# Altium footprint library CH340E.PcbLib: 1 footprints
Each footprint in its own frame and in the unit in brackets; x right, y up, seen from the top. Pads: shape width x height; smd on the part's side, far side on the other; paste and mask are expansions set on the pad; w line width, h text height; cw(c..) or ccw(c..) is an arc to the next point about the centre after c.
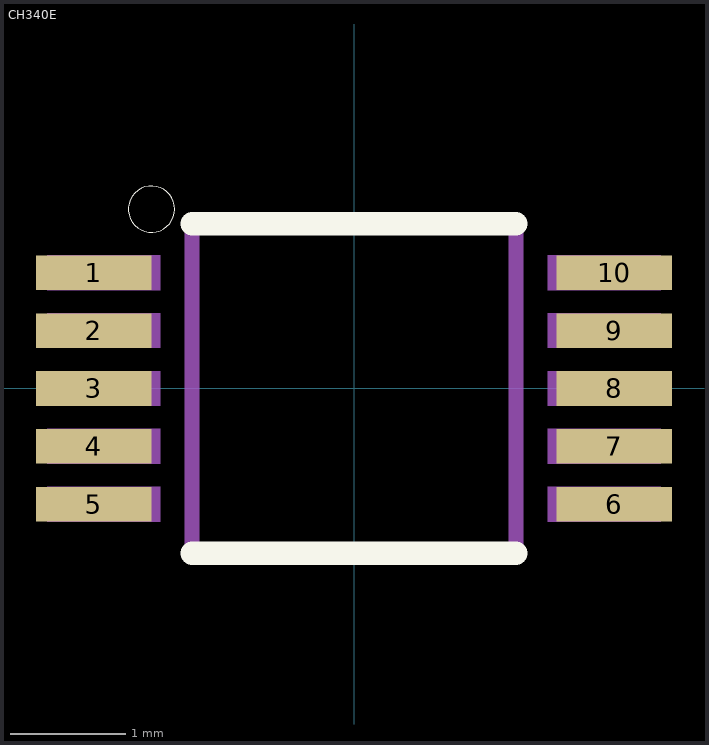
[diagram p0: the footprint, top view; thin cyan lines are the x and y axes]

## CH340E [mm]
pads (10):
  rect 1x0.3 smd paste-1 mask+0.05: 1(-2.25,1) 2(-2.25,0.5) 3(-2.25,0) 4(-2.25,-0.5) 5(-2.25,-1) 6(2.25,-1) 7(2.25,-0.5) 8(2.25,0) 9(2.25,0.5) 10(2.25,1)
Top Overlay:
  circle w0: c-1.75,1.55 r0.2
  lines w0.203: -1.4,-1.425 1.4,-1.425 ; -1.4,1.425 1.4,1.425
Top Paste:
  region: -1.825,0.875 -2.7,0.875 -2.7,1.125 -1.825,1.125
  region: -1.825,0.375 -2.7,0.375 -2.7,0.625 -1.825,0.625
  region: -1.825,-0.125 -2.7,-0.125 -2.7,0.125 -1.825,0.125
  region: -1.825,-0.625 -2.7,-0.625 -2.7,-0.375 -1.825,-0.375
  region: -1.825,-1.125 -2.7,-1.125 -2.7,-0.875 -1.825,-0.875
  region: 2.7,-1.125 1.825,-1.125 1.825,-0.875 2.7,-0.875
  region: 2.7,-0.625 1.825,-0.625 1.825,-0.375 2.7,-0.375
  region: 2.7,-0.125 1.825,-0.125 1.825,0.125 2.7,0.125
  region: 2.7,0.375 1.825,0.375 1.825,0.625 2.7,0.625
  region: 2.7,0.875 1.825,0.875 1.825,1.125 2.7,1.125
Mechanical 13:
  region: -1.675,0.85 -2.65,0.85 -2.65,1.15 -1.675,1.15
  region: -1.675,0.35 -2.65,0.35 -2.65,0.65 -1.675,0.65
  region: -1.675,-0.15 -2.65,-0.15 -2.65,0.15 -1.675,0.15
  region: -1.675,-0.65 -2.65,-0.65 -2.65,-0.35 -1.675,-0.35
  region: -1.675,-1.15 -2.65,-1.15 -2.65,-0.85 -1.675,-0.85
  region: 2.65,-1.15 1.675,-1.15 1.675,-0.85 2.65,-0.85
  region: 2.65,-0.65 1.675,-0.65 1.675,-0.35 2.65,-0.35
  region: 2.65,-0.15 1.675,-0.15 1.675,0.15 2.65,0.15
  region: 2.65,0.35 1.675,0.35 1.675,0.65 2.65,0.65
  region: 2.65,0.85 1.675,0.85 1.675,1.15 2.65,1.15
  lines w0.127: -1.4,-1.425 -1.4,1.425 ; 1.4,-1.425 1.4,1.425
3D body "step_temp.STEP": height 1, standoff 0, extent -2.45,-1.5 2.45,1.5